# EAGLE library part 403-5X026-5X (library con-ept-one27)
ept One27 male straight 26pins 1.27 mm pitch SMT Board-to-Board Connector System for parallel, horizontal and perpendicular PCB connections as well as cable-to-board connections. For mezzanine board-to-board connections from 8mm up to 13.8mm. Available with 12 to 80 pins. www.ept.de
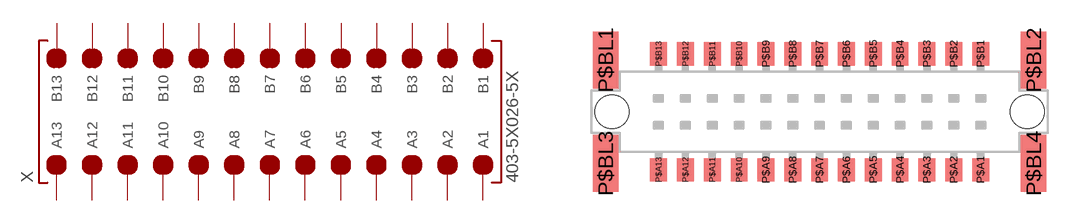
[diagram p3: symbol with the pads of 403-5X026-5X; footprint 403-5X026-5X]

Designator prefix X

## 403-5X026-5X  [403-5X026-5X]
P$A1  A1  pas
P$A2  A2  pas
P$A3  A3  pas
P$A4  A4  pas
P$A5  A5  pas
P$A6  A6  pas
P$A7  A7  pas
P$A8  A8  pas
P$A9  A9  pas
P$A10  A10  pas
P$A11  A11  pas
P$A12  A12  pas
P$A13  A13  pas
P$B1  B1  pas
P$B2  B2  pas
P$B3  B3  pas
P$B4  B4  pas
P$B5  B5  pas
P$B6  B6  pas
P$B7  B7  pas
P$B8  B8  pas
P$B9  B9  pas
P$B10  B10  pas
P$B11  B11  pas
P$B12  B12  pas
P$B13  B13  pas

## Footprint 403-5X026-5X (pad centres in mm)
ept One27 male straight 26pins 1.27 mm pitch SMT Board-to-Board Connector System for parallel, horizontal and perpendicular PCB connections as well as cable-to-board connections. For mezzanine board-to-board connections from 8mm up to 13.8mm. Available with 12 to 80 pins. www.ept.de
smd 0.8 x 1.1: P$A1 7.62,-2.75; P$A2 6.35,-2.75; P$A3 5.08,-2.75; P$A4 3.81,-2.75; P$A5 2.54,-2.75; P$A6 1.27,-2.75; P$A7 0,-2.75; P$A8 -1.27,-2.75; P$A9 -2.54,-2.75; P$A10 -3.81,-2.75; P$A11 -5.08,-2.75; P$A12 -6.35,-2.75; P$A13 -7.62,-2.75; P$B1 7.62,2.75; P$B2 6.35,2.75; P$B3 5.08,2.75; P$B4 3.81,2.75; P$B5 2.54,2.75; P$B6 1.27,2.75; P$B7 0,2.75; P$B8 -1.27,2.75; P$B9 -2.54,2.75; P$B10 -3.81,2.75; P$B11 -5.08,2.75; P$B12 -6.35,2.75; P$B13 -7.62,2.75
smd 1.2 x 2.7: P$BL1 -10.13,2.45; P$BL2 10.13,2.45; P$BL3 -10.13,-2.45; P$BL4 10.13,-2.45
hole 1.6 at -9.83,0
hole 1.6 at 9.83,0